# Altium schematic symbol library LoRa-RA02.SchLib: 1 symbol
Pins are listed as number, name and electrical type; pins without a type are passive.

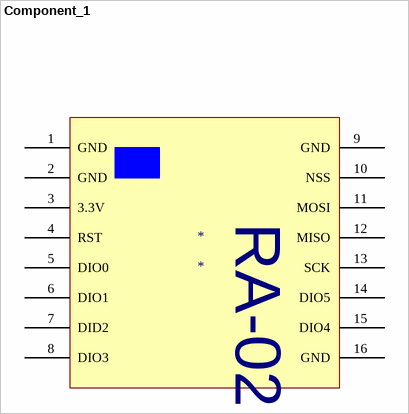
[diagram p0: symbol Component_1]

## Component_1
designator *
pins: 1 GND, 2 GND, 3 3.3V, 4 RST, 5 DIO0, 6 DIO1, 7 DID2, 8 DIO3, 9 GND, 10 NSS, 11 MOSI, 12 MISO, 13 SCK, 14 DIO5, 15 DIO4, 16 GND
text: RA-02